# EAGLE library part SW_DPDT_SLIDE (library wheat)
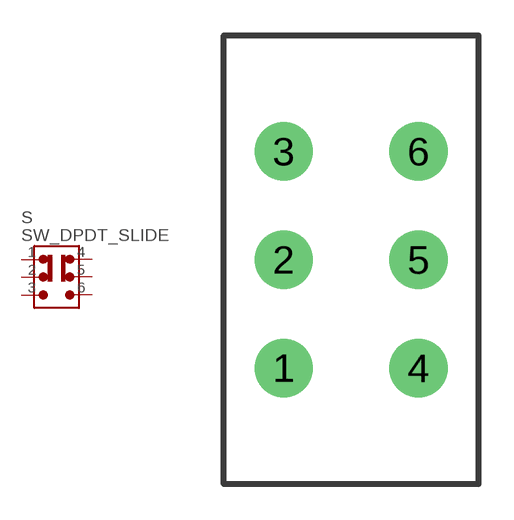
[diagram p221: symbol with the pads of SW_DPDT_CKL; footprint SW_DPDT_CKL]

Designator prefix S

## SW_DPDT_SLIDE  [SW_DPDT_CKL]
1  1  pas
2  2  pas
3  3  pas
4  5  pas
5  6  pas
6  7  pas

## Footprint SW_DPDT_CKL (pad centres in mm)
drill 1.651: 1 -2.857,-4.597; 2 -2.857,0; 3 -2.857,4.597; 4 2.857,-4.597; 5 2.857,0; 6 2.857,4.597